# Altium footprint library Res_Yageo_RC0603FR-071ML_eec_IPC_A.PcbLib: 1 footprints
Each footprint in its own frame and in the unit in brackets; x right, y up, seen from the top. Pads: shape width x height; smd on the part's side, far side on the other; paste and mask are expansions set on the pad; w line width, h text height; cw(c..) or ccw(c..) is an arc to the next point about the centre after c.
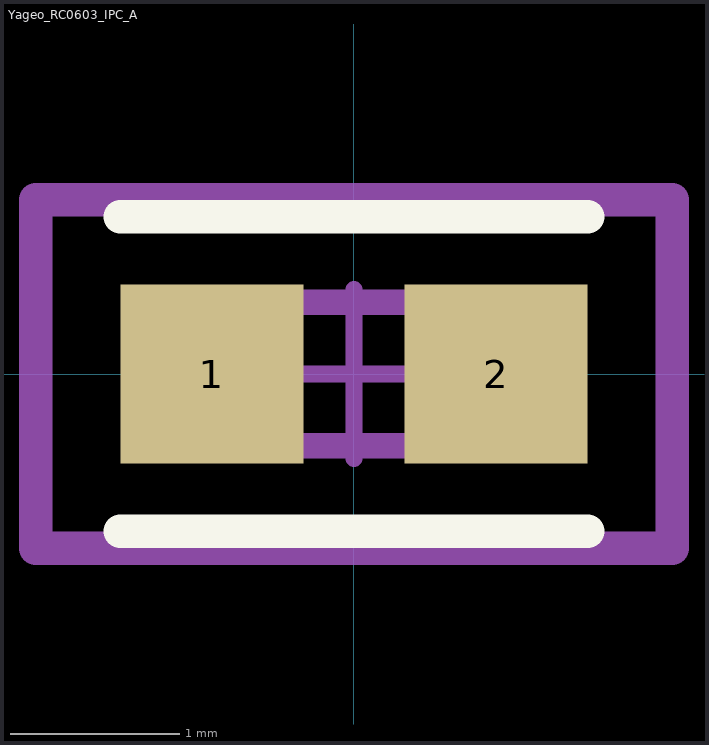
[diagram p0: the footprint, top view; thin cyan lines are the x and y axes]

## Yageo_RC0603_IPC_A [mm]
pads (2):
  rect 1.085x1.062 smd paste+0 mask+0: 1(-0.84,0) 2(0.84,0)
Top Overlay:
  lines w0.2: -1.383,-0.931 1.383,-0.931 ; -1.383,0.931 1.383,0.931
Mechanical 10:
  lines w0.2: -1.883,-1.031 1.883,-1.031 1.883,1.031 -1.883,1.031 -1.883,-1.031
  text ".Designator" at 0,0 h1
Mechanical 12:
  lines w0.15: -0.775,-0.425 0.775,-0.425 0.775,0.425 -0.775,0.425 -0.775,-0.425
Mechanical 15:
  lines w0.1: -0.5,0 0.5,0 ; 0,-0.5 0,0.5
  lines w0.2: -1.883,-1.031 1.883,-1.031 1.883,1.031 -1.883,1.031 -1.883,-1.031